# Altium footprint library PcbLib1.PcbLib: 6 footprints
Each footprint in its own frame and in the unit in brackets; x right, y up, seen from the top. Pads: shape width x height; smd on the part's side, far side on the other; paste and mask are expansions set on the pad; w line width, h text height; cw(c..) or ccw(c..) is an arc to the next point about the centre after c.
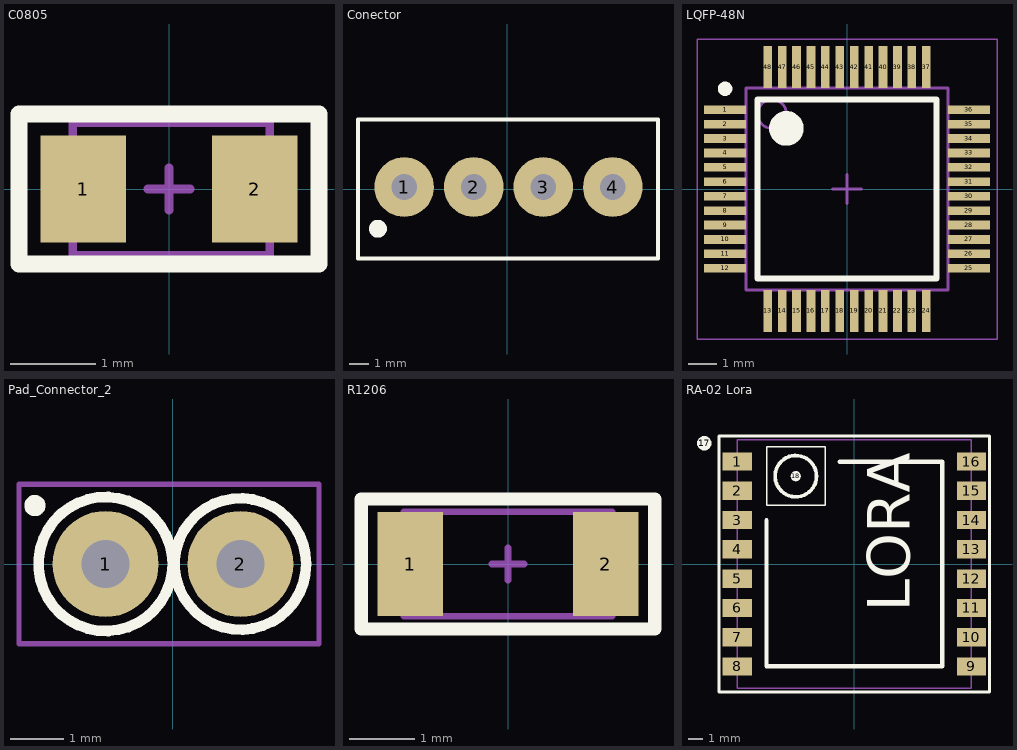
[diagram p0: the footprints below, top view; thin cyan lines are the x and y axes]

## C0805 [mm]
pads (2):
  rect 1x1.25 smd: 1(-1,0) 2(1,0)
Top Overlay:
  lines w0.2: -1.75,-0.875 -1.75,0.875 1.75,0.875 1.75,-0.875 -1.75,-0.875
Top Assy:
  lines w0.1: -1.125,-0.775 -1.125,0.775 1.175,0.775 1.175,-0.775 -1.125,-0.775
3D Model:
  lines w0.1: -1.125,-0.775 -1.125,-0.775
Border:
  lines w0.1: -0.25,0 0.25,0 ; 0,-0.25 0,0.25 ; -1.75,-0.875 -1.75,0.875 1.75,0.875 1.75,-0.875 -1.75,-0.875
3D body "C0805Y103K1RACAUTO.step": height 0.98, standoff 0, extent -1.125,-0.775 1.175,0.775

## Conector [mm]
pads (4):
  round 3 hole 1.3: 1(-5.175,0.1) 2(-1.675,0.1) 3(1.825,0.1) 4(5.325,0.1)
Top Overlay:
  circle w0.5: c-6.5,-2 r0.2
  lines w0.2: -7.5,-3.5 -7.5,3.5 7.6,3.5 7.6,-3.5 -7.5,-3.5
Top Assy:
  lines w0.1: -7.5,-3.5 -7.5,3.5 7.6,3.5 7.6,-3.5 -7.5,-3.5
3D body "c-1776275-4-a-3d.stp": height 8.3, standoff -4.2, extent -7.45,-3.475 7.55,3.525

## LQFP-48N [mm] "TSQFP, 48-Leads, Body 7,00x7,00mm, Pitch 0,50mm, IPC Medium Density"
height 1.6
pads (48):
  rect 1.45x0.3 smd: 1(-4.225,2.75) 2(-4.225,2.25) 3(-4.225,1.75) 4(-4.225,1.25) 5(-4.225,0.75) 6(-4.225,0.25) 7(-4.225,-0.25) 8(-4.225,-0.75) 9(-4.225,-1.25) 10(-4.225,-1.75) 11(-4.225,-2.25) 12(-4.225,-2.75) 25(4.225,-2.75) 26(4.225,-2.25) 27(4.225,-1.75) 28(4.225,-1.25) 29(4.225,-0.75) 30(4.225,-0.25) 31(4.225,0.25) 32(4.225,0.75) 33(4.225,1.25) 34(4.225,1.75) 35(4.225,2.25) 36(4.225,2.75)
  rect 0.3x1.45 smd: 13(-2.75,-4.225) 14(-2.25,-4.225) 15(-1.75,-4.225) 16(-1.25,-4.225) 17(-0.75,-4.225) 18(-0.25,-4.225) 19(0.25,-4.225) 20(0.75,-4.225) 21(1.25,-4.225) 22(1.75,-4.225) 23(2.25,-4.225) 24(2.75,-4.225) 37(2.75,4.225) 38(2.25,4.225) 39(1.75,4.225) 40(1.25,4.225) 41(0.75,4.225) 42(0.25,4.225) 43(-0.25,4.225) 44(-0.75,4.225) 45(-1.25,4.225) 46(-1.75,4.225) 47(-2.25,4.225) 48(-2.75,4.225)
Top Overlay:
  circle w0.6: c-2.1,2.1 r0.3
  circle w0.25: c-4.225,3.475 r0.125
  lines w0.2: -3.1,-3.1 3.1,-3.1 3.1,3.1 -3.1,3.1 -3.1,-3.1
Top Assy:
  circle w0.1: c-2.6,2.6 r0.5
  lines w0.1: -3.5,-3.5 3.5,-3.5 3.5,3.5 -3.5,3.5 -3.5,-3.5
Border:
  lines w0.05: -5.2,-5.2 5.2,-5.2 5.2,5.2 -5.2,5.2 -5.2,-5.2
  lines w0.1: -0.5,0 0.5,0 ; 0,-0.5 0,0.5
3D body "LQFP-48N.step": height 1.6, standoff 0, extent -4.5,-4.5 4.5,4.5

## Pad_Connector_2 [mm]
pads (2):
  round 2 hole 0.9: 1(-1.27,0) 2(1.27,0)
Top Overlay:
  circle w0.2: c-2.6,1.1 r0.1
  circle w0.2: c-1.27,0 r1.262
  circle w0.2: c1.27,0 r1.238
Top Assy:
  circle w0.1: c-1.27,0 r1.27
  circle w0.1: c1.27,0 r1.27
Border:
  lines w0.1: -2.9,-1.5 -2.9,-1.4 -2.9,1.5 2.75,1.5 2.75,-1.5 -2.9,-1.5

## R1206 [mm]
pads (2):
  rect 1x1.6 smd: 1(-1.5,0) 2(1.5,0)
Top Overlay:
  lines w0.2: -2.25,-1 2.25,-1 2.25,1 -2.25,1 -2.25,-1
Top Assy:
  lines w0.1: -1.6,-0.8 -1.6,0.8 1.6,0.8 1.6,-0.8 -1.6,-0.8
Border:
  lines w0.1: -0.25,0 0.25,0 ; 0,-0.25 0,0.25 ; -2.25,-1 2.25,-1 2.25,1 -2.25,1 -2.25,-1
3D body "WSLP1206 (0.001 to 0.0019).STEP": height 0.66, standoff 0, extent -1.6,-0.8 1.6,0.8

## RA-02 Lora [mm]
pads (18):
  rect 2x1.25 smd: 1(-8,7) 2(-8,5) 3(-8,3) 4(-8,1) 5(-8,-1) 6(-8,-3) 7(-8,-5) 8(-8,-7) 9(8,-7) 10(8,-5) 11(8,-3) 12(8,-1) 13(8,1) 14(8,3) 15(8,5) 16(8,7)
  round 1 on Top Overlay: 17(-10.25,8.25)
  round 0.7 on Top Overlay: 18(-4,6)
Top Overlay:
  circle w0.254: c-4,6 r1.414
  lines w0.1: -6,4 -2,4 -2,8 -6,8 -6,4
  lines w0.2: -9.25,-8.75 -9.25,8.75 9.25,8.75 9.25,-8.75 -9.25,-8.75
  lines w0.3: -6,3 -6,-7 6,-7 6,7 -1,7
  text "LORA" at 4.75,-3.25 h5
Top Assy:
  lines w0.1: -8,-8.5 8,-8.5 8,8.5 -8,8.5 -8,-8.5
Border:
  lines w0.1: -9.25,-8.75 -9.25,8.75 9.25,8.75 9.25,-8.75 -9.25,-8.75
3D body "RA-02_module.stp": height 3.2, standoff 0, extent -8,-8.5 8,8.5